# Altium schematic symbol library MP2016.SchLib: 1 symbol
Pins are listed as number, name and electrical type; pins without a type are passive.

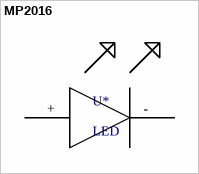
[diagram p0: symbol MP2016]

## MP2016
designator U*, comment LED
footprint MP2016 (LED)
pins: +, -